# Altium footprint library PCB1.PcbLib: 38 footprints (part 2 of 3)
Each footprint in its own frame and in the unit in brackets; x right, y up, seen from the top. Pads: shape width x height; smd on the part's side, far side on the other; paste and mask are expansions set on the pad; w line width, h text height; cw(c..) or ccw(c..) is an arc to the next point about the centre after c.
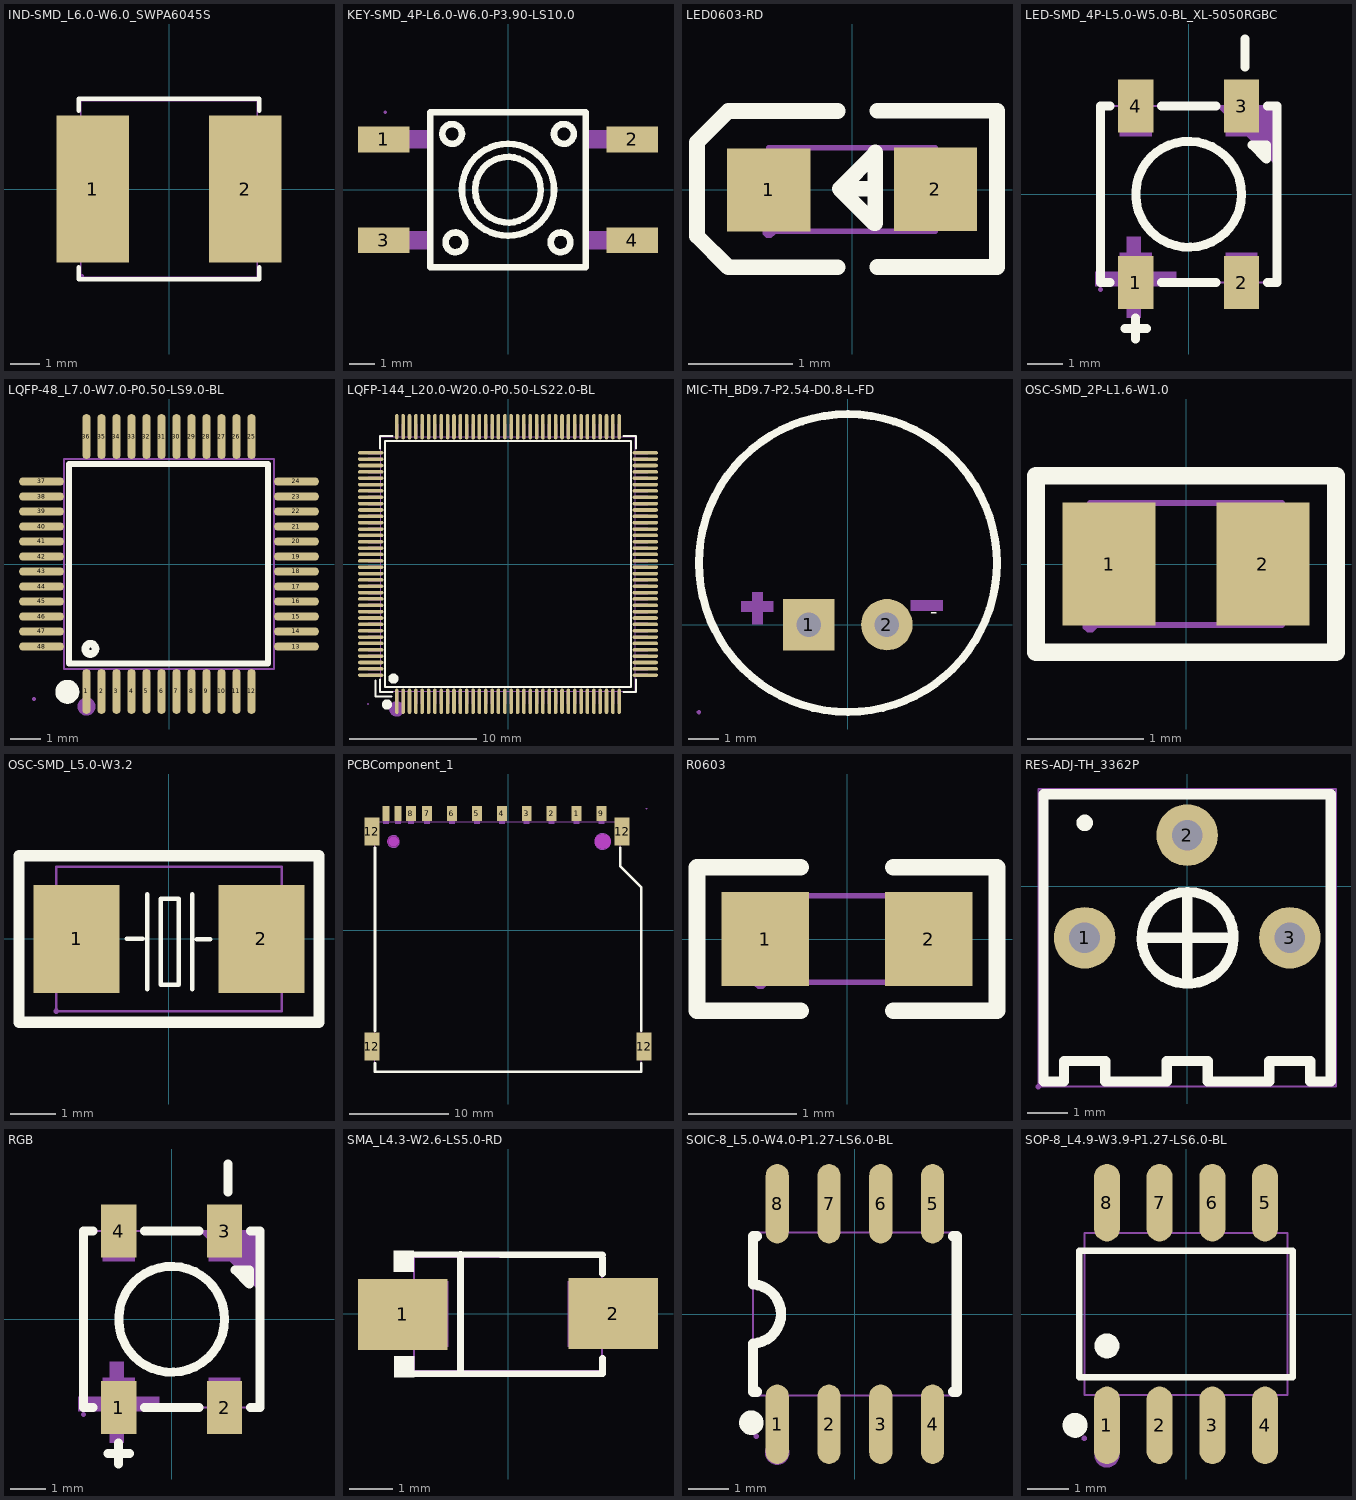
[diagram p1: the footprints below, top view; thin cyan lines are the x and y axes]

## IND-SMD_L6.0-W6.0_SWPA6045S [mm]
pads (2):
  rect 2.474x5.02 smd: 1(-2.603,0) 2(2.603,0)
Top Overlay:
  lines w0.152: -3.076,-2.662 -3.076,-3.076 3.076,-3.076 3.076,-2.662 ; -3.076,2.662 -3.076,3.076 3.076,3.076 3.076,2.662
Mechanical 15:
  region: -3,2.45 -1.45,2.45 -1.45,-2.45 -3,-2.45
  region: 1.45,2.45 3,2.45 3,-2.45 1.45,-2.45
  region: -2.91,-2.97 -2.91,-2.945 -2.945,-2.91 -2.995,-2.91 -3.03,-2.945 -3.03,-2.97 -3.03,-2.995 -2.995,-3.03 -2.945,-3.03 -2.91,-2.995 -2.91,-2.97
  lines w0.051: -3,-3 3,-3 3,3 -3,3 -3,-3

## KEY-SMD_4P-L6.0-W6.0-P3.90-LS10.0 [mm]
pads (4):
  rect 2x1 smd: 1(-4.8,1.95) 2(4.8,1.95) 3(-4.8,-1.95) 4(4.8,-1.95)
Top Overlay:
  circle w0.254: c-2.159,2.159 r0.381
  circle w0.254: c2.159,2.159 r0.381
  circle w0.254: c-2.032,-2.032 r0.381
  circle w0.254: c2.032,-2.032 r0.381
  circle w0.254: c0,0 r1.778
  circle w0.254: c0,0 r1.27
  lines w0.254: -3,-3 -3,3 3,3 3,-3 -3,-3
Mechanical 15:
  region: -4.75,3.06 -4.775,3.06 -4.81,3.025 -4.81,2.975 -4.775,2.94 -4.75,2.94 -4.725,2.94 -4.69,2.975 -4.69,3.025 -4.725,3.06 -4.75,3.06
  region: 3.85,-2.3 3.85,-1.6 4.55,-1.6 4.55,-2.3
  region: -4.55,-2.3 -4.55,-1.6 -3.85,-1.6 -3.85,-2.3
  region: 3.85,1.6 3.85,2.3 4.55,2.3 4.55,1.6
  region: -4.55,1.6 -4.55,2.3 -3.85,2.3 -3.85,1.6
  region: 4.15,1.6 4.15,2.29 4.14,2.3 2.95,2.3 2.95,1.6
  region: 4.15,-2.3 4.15,-1.61 4.14,-1.6 2.95,-1.6 2.95,-2.3
  region: -4.15,-1.6 -4.15,-2.29 -4.14,-2.3 -2.95,-2.3 -2.95,-1.6
  region: -4.15,2.3 -4.15,1.61 -4.14,1.6 -2.95,1.6 -2.95,2.3
  lines w0.051: -3,-3 -3,3 3,3 3,-3 -3,-3

## LED0603-RD [mm]
pads (2):
  rect 0.8x0.8 smd: 1(-0.799,-0.003) 2(0.799,0.003)
Top Overlay:
  lines w0.15: -0.14,-0.746 -1.19,-0.746 -1.49,-0.446 -1.49,-0.346 -1.49,0.354 -1.49,0.454 -1.19,0.754 -0.14,0.754 ; 0.22,0.007 -0.12,0.007 ; 0.24,-0.744 1.39,-0.744 ; 0.24,0.757 1.39,0.757 1.39,-0.723 ; -0.12,0.007 0.22,0.347 0.22,0.357 0.22,-0.324 0.21,-0.324 -0.12,0.007
Mechanical 6:
  region: 0.529,0.068 1.069,0.068 1.069,-0.062 0.529,-0.062
  region: 0.735,-0.267 0.735,0.273 0.865,0.273 0.865,-0.267
  region: -1.07,0.062 -0.53,0.062 -0.53,-0.068 -1.07,-0.068
Mechanical 15:
  region: 0.5,-0.396 0.5,0.404 0.8,0.404 0.8,-0.396
  region: -0.8,-0.403 -0.8,0.397 -0.5,0.397 -0.5,-0.403
  region: -0.739,-0.403 -0.739,-0.379 -0.775,-0.344 -0.824,-0.344 -0.859,-0.379 -0.859,-0.403 -0.859,-0.428 -0.824,-0.463 -0.775,-0.463 -0.739,-0.428 -0.739,-0.403
  lines w0.051: -0.8,-0.4 0.8,-0.4 0.8,0.4 -0.8,0.4 -0.8,-0.4

## LED-SMD_4P-L5.0-W5.0-BL_XL-5050RGBC [mm]
pads (4):
  rect 1x1.5 smd: 1(-1.5,-2.5) 2(1.5,-2.5) 3(1.5,2.5) 4(-1.5,2.5)
Top Overlay:
  circle w0.254: c0,-0.001 r1.5
  lines w0.254: -2.23,-2.501 -2.5,-2.501 -2.5,2.499 -2.23,2.499 ; -1.8,-3.8 -1.2,-3.8 ; -1.5,-4.1 -1.5,-3.5 ; -0.77,-2.501 0.77,-2.501 ; -0.77,2.499 0.77,2.499 ; 1.6,3.6 1.6,4.4 ; 2.23,-2.501 2.5,-2.501 2.5,2.499 2.23,2.499 ; 1.8,1.399 2.2,1.399 2.2,0.999 1.8,1.399
Mechanical 6:
  region: -2.65,-2.2 -2.65,-2.6 -0.35,-2.6 -0.35,-2.2
  region: -1.75,-3.5 -1.75,-1.2 -1.45,-1.2 -1.35,-1.2 -1.35,-1.3 -1.35,-3.5
  region: 0.9,2.5 0.8,2.5 0.9,2.4 2.5,0.8 2.5,2.5
Mechanical 15:
  region: -2.44,-2.7 -2.44,-2.675 -2.475,-2.64 -2.525,-2.64 -2.56,-2.675 -2.56,-2.7 -2.56,-2.725 -2.525,-2.76 -2.475,-2.76 -2.44,-2.725
  region: -1.05,2.7 -1.05,1.65 -1.95,1.65 -1.95,2.7
  region: -1.05,-1.65 -1.05,-2.7 -1.95,-2.7 -1.95,-1.65
  region: 1.95,-1.65 1.95,-2.7 1.05,-2.7 1.05,-1.65
  region: 1.95,2.7 1.95,1.65 1.05,1.65 1.05,2.7
  lines w0.051: -2.5,-2.5 -2.5,2.5 2.5,2.5 2.5,-2.5 -2.5,-2.5

## LQFP-48_L7.0-W7.0-P0.50-LS9.0-BL [mm]
pads (48):
  oval 0.27x1.5 smd paste+0 mask+0.05: 1(-2.75,-4.25) 2(-2.25,-4.25) 3(-1.75,-4.25) 4(-1.25,-4.25) 5(-0.75,-4.25) 6(-0.25,-4.25) 7(0.25,-4.25) 8(0.75,-4.25) 9(1.25,-4.25) 10(1.75,-4.25) 11(2.25,-4.25) 12(2.75,-4.25) 25(2.75,4.25) 26(2.25,4.25) 27(1.75,4.25) 28(1.25,4.25) 29(0.75,4.25) 30(0.25,4.25) 31(-0.25,4.25) 32(-0.75,4.25) 33(-1.25,4.25) 34(-1.75,4.25) 35(-2.25,4.25) 36(-2.75,4.25)
  oval 1.5x0.27 smd paste+0 mask+0.05: 13(4.25,-2.75) 14(4.25,-2.25) 15(4.25,-1.75) 16(4.25,-1.25) 17(4.25,-0.75) 18(4.25,-0.25) 19(4.25,0.25) 20(4.25,0.75) 21(4.25,1.25) 22(4.25,1.75) 23(4.25,2.25) 24(4.25,2.75) 37(-4.25,2.75) 38(-4.25,2.25) 39(-4.25,1.75) 40(-4.25,1.25) 41(-4.25,0.75) 42(-4.25,0.25) 43(-4.25,-0.25) 44(-4.25,-0.75) 45(-4.25,-1.25) 46(-4.25,-1.75) 47(-4.25,-2.25) 48(-4.25,-2.75)
Top Overlay:
  circle w0.254: c-2.62,-2.83 r0.17
  lines w0.2: -2.896,3.34 3.302,3.34 3.302,-3.315 -3.327,-3.315 -3.327,3.34 -2.565,3.34
  lines w0.4: -3.39,-4.06 ccw(c-3.389,-4.26) -3.387,-4.06
Mechanical 6:
  circle w0.3: c-2.75,-4.75 r0.15
Mechanical 15:
  drawing of 101 lines, arcs and shapes, not listed

## LQFP-144_L20.0-W20.0-P0.50-LS22.0-BL [mm]
pads (144):
  oval 0.28x2 smd: 1(-8.75,-10.8) 2(-8.25,-10.8) 3(-7.75,-10.8) 4(-7.25,-10.8) 5(-6.75,-10.8) 6(-6.25,-10.8) 7(-5.75,-10.8) 8(-5.25,-10.8) 9(-4.75,-10.8) 10(-4.25,-10.8) 11(-3.75,-10.8) 12(-3.25,-10.8) 13(-2.75,-10.8) 14(-2.25,-10.8) 15(-1.75,-10.8) 16(-1.25,-10.8) 17(-0.75,-10.8) 18(-0.25,-10.8) 19(0.25,-10.8) 20(0.75,-10.8) 21(1.25,-10.8) 22(1.75,-10.8) 23(2.25,-10.8) 24(2.75,-10.8) 25(3.25,-10.8) 26(3.75,-10.8) 27(4.25,-10.8) 28(4.75,-10.8) 29(5.25,-10.8) 30(5.75,-10.8) 31(6.25,-10.8) 32(6.75,-10.8) 33(7.25,-10.8) 34(7.75,-10.8) 35(8.25,-10.8) 36(8.75,-10.8) 73(8.75,10.8) 74(8.25,10.8) 75(7.75,10.8) 76(7.25,10.8) 77(6.75,10.8) 78(6.25,10.8) 79(5.75,10.8) 80(5.25,10.8) 81(4.75,10.8) 82(4.25,10.8) 83(3.75,10.8) 84(3.25,10.8) 85(2.75,10.8) 86(2.25,10.8) 87(1.75,10.8) 88(1.25,10.8) 89(0.75,10.8) 90(0.25,10.8) 91(-0.25,10.8) 92(-0.75,10.8) 93(-1.25,10.8) 94(-1.75,10.8) 95(-2.25,10.8) 96(-2.75,10.8) 97(-3.25,10.8) 98(-3.75,10.8) 99(-4.25,10.8) 100(-4.75,10.8) 101(-5.25,10.8) 102(-5.75,10.8) 103(-6.25,10.8) 104(-6.75,10.8) 105(-7.25,10.8) 106(-7.75,10.8) 107(-8.25,10.8) 108(-8.75,10.8)
  oval 2x0.28 smd: 37(10.8,-8.75) 38(10.8,-8.25) 39(10.8,-7.75) 40(10.8,-7.25) 41(10.8,-6.75) 42(10.8,-6.25) 43(10.8,-5.75) 44(10.8,-5.25) 45(10.8,-4.75) 46(10.8,-4.25) 47(10.8,-3.75) 48(10.8,-3.25) 49(10.8,-2.75) 50(10.8,-2.25) 51(10.8,-1.75) 52(10.8,-1.25) 53(10.8,-0.75) 54(10.8,-0.25) 55(10.8,0.25) 56(10.8,0.75) 57(10.8,1.25) 58(10.8,1.75) 59(10.8,2.25) 60(10.8,2.75) 61(10.8,3.25) 62(10.8,3.75) 63(10.8,4.25) 64(10.8,4.75) 65(10.8,5.25) 66(10.8,5.75) 67(10.8,6.25) 68(10.8,6.75) 69(10.8,7.25) 70(10.8,7.75) 71(10.8,8.25) 72(10.8,8.75) 109(-10.8,8.75) 110(-10.8,8.25) 111(-10.8,7.75) 112(-10.8,7.25) 113(-10.8,6.75) 114(-10.8,6.25) 115(-10.8,5.75) 116(-10.8,5.25) 117(-10.8,4.75) 118(-10.8,4.25) 119(-10.8,3.75) 120(-10.8,3.25) 121(-10.8,2.75) 122(-10.8,2.25) 123(-10.8,1.75) 124(-10.8,1.25) 125(-10.8,0.75) 126(-10.8,0.25) 127(-10.8,-0.25) 128(-10.8,-0.75) 129(-10.8,-1.25) 130(-10.8,-1.75) 131(-10.8,-2.25) 132(-10.8,-2.75) 133(-10.8,-3.25) 134(-10.8,-3.75) 135(-10.8,-4.25) 136(-10.8,-4.75) 137(-10.8,-5.25) 138(-10.8,-5.75) 139(-10.8,-6.25) 140(-10.8,-6.75) 141(-10.8,-7.25) 142(-10.8,-7.75) 143(-10.8,-8.25) 144(-10.8,-8.75)
Top Overlay:
  circle w0.4: c-9.017,-9.017 r0.2
  circle w0.4: c-9.525,-11.049 r0.2
  lines w0.152: -10.414,-9.144 -10.414,-10.414 -9.144,-10.414 ; -10.076,-9.081 -10.076,-10.076 -9.08,-10.076 ; -10.076,9.08 -10.076,10.076 -9.08,10.076 ; 9.081,-10.076 10.076,-10.076 10.076,-9.081 ; 9.081,10.076 10.076,10.076 10.076,9.08 ; -9.671,-9.671 9.671,-9.671 9.671,9.671 -9.671,9.671 -9.671,-9.671
Mechanical 6:
  circle w0.6: c-8.75,-11.4 r0.3
Mechanical 15:
  drawing of 293 lines, arcs and shapes, not listed

## MIC-TH_BD9.7-P2.54-D0.8-L-FD [mil]
pads (2):
  rect 66x66 hole 31.5: 1(-50,0)
  round 66 hole 31.5: 2(50,0)
Top Overlay:
  circle w10: c0,79 r191
  text "-" at 115,22.18 h19.61
Mechanical 6:
  region: 80.51,18.11 80.51,31.5 121.85,31.5 121.85,18.11
  region: -137.06,16.58 -137.06,29.97 -95.72,29.97 -95.72,16.58
  region: -109.08,0.4 -122.46,0.4 -122.46,41.73 -109.08,41.73
Mechanical 15:
  region: -191.14,-109.83 -192.12,-109.83 -193.5,-111.22 -193.5,-113.18 -192.12,-114.56 -191.14,-114.56 -190.16,-114.56 -188.78,-113.18 -188.78,-111.22 -190.16,-109.83 -191.14,-109.83
  region: 50,9.84 48.04,9.84 44.43,8.34 41.66,5.57 40.16,1.96 40.16,-1.96 41.66,-5.57 44.43,-8.34 48.04,-9.84 50,-9.84 51.96,-9.84 55.57,-8.34 58.34,-5.57 59.84,-1.96 59.84,1.96 58.34,5.57 55.57,8.34 51.96,9.84 50,9.84
  region: -50,9.84 -51.96,9.84 -55.57,8.34 -58.34,5.57 -59.84,1.96 -59.84,-1.96 -58.34,-5.57 -55.57,-8.34 -51.96,-9.84 -50,-9.84 -48.04,-9.84 -44.43,-8.34 -41.66,-5.57 -40.16,-1.96 -40.16,1.96 -41.66,5.57 -44.43,8.34 -48.04,9.84 -50,9.84
  lines w2: -191.14,78.95 cw(c0,78.94) 191.14,78.94 cw(c0,78.94) -191.14,78.95

## OSC-SMD_2P-L1.6-W1.0 [mm]
pads (2):
  rect 0.8x1.06 smd: 1(-0.66,0) 2(0.66,0)
Top Overlay:
  lines w0.152: -1.289,-0.759 1.289,-0.759 1.289,0.759 -1.289,0.759 -1.289,-0.759
Mechanical 15:
  region: 0.36,-0.43 0.36,0.43 0.76,0.43 0.76,-0.43
  region: -0.36,-0.43 -0.36,0.43 -0.76,0.43 -0.76,-0.43
  region: -0.765,-0.525 -0.765,-0.5 -0.8,-0.465 -0.85,-0.465 -0.885,-0.5 -0.885,-0.525 -0.885,-0.55 -0.85,-0.585 -0.8,-0.585 -0.765,-0.55 -0.765,-0.525
  lines w0.051: -0.825,-0.525 0.825,-0.525 0.825,0.525 -0.825,0.525 -0.825,-0.525

## OSC-SMD_L5.0-W3.2 [mm]
pads (2):
  rect 1.9x2.4 smd: 1(-2.05,0) 2(2.05,0)
Top Overlay:
  lines w0.1: -0.94,0 -0.584,0 ; -0.483,-1.109 -0.483,0.991 ; 0.517,-1.109 0.517,0.991 ; 0.617,-0.009 0.917,-0.009 ; -0.183,-1.009 0.217,-1.009 0.217,0.89 -0.183,0.89 -0.183,-1.009
  lines w0.254: -3.325,-1.85 -3.325,-0.7 -3.325,0.7 -3.325,1.85 3.325,1.85 3.325,0.7 3.325,-0.7 3.325,-1.85 -3.325,-1.85
Mechanical 15:
  region: -1.2,1 -1.2,-1 -2.5,-1 -2.5,1
  region: 2.5,1 2.5,-1 1.2,-1 1.2,1
  region: -2.56,-1.6 -2.56,-1.625 -2.525,-1.66 -2.475,-1.66 -2.44,-1.625 -2.44,-1.6 -2.44,-1.575 -2.475,-1.54 -2.525,-1.54 -2.56,-1.575 -2.56,-1.6
  lines w0.051: -2.5,-1.6 2.5,-1.6 2.5,1.6 -2.5,1.6 -2.5,-1.6

## PCBComponent_1 [mm]
pads (15):
  rect 1x1.5 smd: 1(6.88,11.69) 2(4.38,11.69) 3(1.88,11.69) 4(-0.62,11.69) 5(-3.12,11.69) 6(-5.62,11.69) 7(-8.12,11.69) 8(-9.75,11.69) 9(9.38,11.69)
  rect 0.7x1.5 smd: 10(-11.05,11.69) 11(-12.25,11.69)
  rect 1.5x2.8 smd: 12(-13.65,-11.69) 12(-13.65,9.89) 12(11.455,9.89) 12(13.65,-11.69)
Top Overlay:
  lines w0.254: -13.345,-13.341 -13.345,-14.223 13.35,-14.223 13.35,-13.341 ; -13.345,-10.079 -13.345,-8.579 -13.345,8.259 ; 11.25,8.259 11.25,6.418 13.35,4.318 13.35,3.92 13.35,-8.579 ; 13.35,-10.079 13.35,-8.416
Keep-Out Layer:
  board cut-out: 10.3,8.89 10.3,8.995 10.246,9.199 10.14,9.381 9.991,9.53 9.809,9.635 9.605,9.69 9.395,9.69 9.191,9.635 9.009,9.53 8.86,9.381 8.755,9.199 8.7,8.995 8.7,8.89 8.7,8.785 8.755,8.581 8.86,8.399 9.009,8.25 9.191,8.144 9.395,8.09 9.605,8.09 9.809,8.144 9.991,8.25 10.14,8.399 10.246,8.581 10.3,8.785 10.3,8.89
  board cut-out: -10.9,8.89 -10.902,9.008 -10.995,9.226 -11.163,9.392 -11.382,9.482 -11.618,9.482 -11.837,9.392 -12.006,9.226 -12.098,9.008 -12.1,8.89 -12.098,8.772 -12.006,8.554 -11.837,8.388 -11.618,8.298 -11.382,8.298 -11.163,8.388 -10.995,8.554 -10.902,8.772 -10.9,8.89
Mechanical 1:
  circle w0.005: c9.5,8.89 r0.8
  circle w0.005: c-11.5,8.89 r0.6
Mechanical 6:
  circle w0.75: c9.5,8.89 r0.375
  circle w0.5: c-11.5,8.89 r0.25
Mechanical 15:
  region: 13.96,12.19 13.959,12.214 13.924,12.248 13.876,12.248 13.841,12.214 13.84,12.19 13.841,12.166 13.876,12.132 13.924,12.132 13.959,12.166 13.96,12.19
  region: 11.2,10.89 11.8,10.89 11.8,8.89 11.2,8.89
  region: -13.9,10.89 -13.3,10.89 -13.3,8.89 -13.9,8.89
  region: -13.9,-10.69 -13.3,-10.69 -13.3,-12.69 -13.9,-12.69
  region: 13.3,-10.69 13.9,-10.69 13.9,-12.69 13.3,-12.69
  region: 9.105,12.19 9.655,12.19 9.655,11.418 9.105,11.418
  region: 9.105,11.468 9.655,11.468 9.655,10.69 9.105,10.69
  region: 6.605,11.468 7.155,11.468 7.155,10.69 6.605,10.69
  region: 6.605,12.19 7.155,12.19 7.155,11.418 6.605,11.418
  region: 4.105,11.468 4.655,11.468 4.655,10.69 4.105,10.69
  region: 4.105,12.19 4.655,12.19 4.655,11.418 4.105,11.418
  region: 1.605,11.468 2.155,11.468 2.155,10.69 1.605,10.69
  region: 1.605,12.19 2.155,12.19 2.155,11.418 1.605,11.418
  region: -0.895,11.468 -0.345,11.468 -0.345,10.69 -0.895,10.69
  region: -0.895,12.19 -0.345,12.19 -0.345,11.418 -0.895,11.418
  region: -3.395,11.468 -2.845,11.468 -2.845,10.69 -3.395,10.69
  region: -3.395,12.19 -2.845,12.19 -2.845,11.418 -3.395,11.418
  region: -5.895,11.468 -5.345,11.468 -5.345,10.69 -5.895,10.69
  region: -5.895,12.19 -5.345,12.19 -5.345,11.418 -5.895,11.418
  region: -8.395,11.468 -7.845,11.468 -7.845,10.69 -8.395,10.69
  region: -8.395,12.19 -7.845,12.19 -7.845,11.418 -8.395,11.418
  region: -10.025,11.468 -9.475,11.468 -9.475,10.69 -10.025,10.69
  region: -10.025,12.19 -9.475,12.19 -9.475,11.418 -10.025,11.418
  region: -11.325,11.468 -10.775,11.468 -10.775,10.69 -11.325,10.69
  region: -11.325,12.19 -10.775,12.19 -10.775,11.418 -11.325,11.418
  region: -12.525,11.468 -11.975,11.468 -11.975,10.69 -12.525,10.69
  region: -12.525,12.19 -11.975,12.19 -11.975,11.418 -12.525,11.418
  lines w0.051: -13.345,-14.21 -13.345,10.89 11.25,10.89 11.25,6.418 13.35,4.24 13.35,-14.21 -13.345,-14.21
Multi-Layer:
  pour cut-out: 10.3,8.89 10.3,8.995 10.246,9.199 10.14,9.381 9.991,9.53 9.809,9.635 9.605,9.69 9.395,9.69 9.191,9.635 9.009,9.53 8.86,9.381 8.755,9.199 8.7,8.995 8.7,8.89 8.7,8.785 8.755,8.581 8.86,8.399 9.009,8.25 9.191,8.144 9.395,8.09 9.605,8.09 9.809,8.144 9.991,8.25 10.14,8.399 10.246,8.581 10.3,8.785 10.3,8.89
  pour cut-out: -10.9,8.89 -10.902,9.008 -10.995,9.226 -11.163,9.392 -11.382,9.482 -11.618,9.482 -11.837,9.392 -12.006,9.226 -12.098,9.008 -12.1,8.89 -12.098,8.772 -12.006,8.554 -11.837,8.388 -11.618,8.298 -11.382,8.298 -11.163,8.388 -10.995,8.554 -10.902,8.772 -10.9,8.89

## R0603 [mm]
pads (2):
  rect 0.806x0.864 smd paste-100 mask+0.051: 1(-0.753,0) 2(0.753,0)
Top Overlay:
  lines w0.152: -0.426,-0.661 -1.385,-0.661 -1.385,0.661 -0.426,0.661 ; 0.426,-0.661 1.385,-0.661 1.385,0.661 0.426,0.661
Top Paste:
  region: 1.195,0.45 0.395,0.45 0.345,0.4 0.345,0.172 0.715,0.172 0.715,-0.158 0.345,-0.158 0.345,-0.4 0.395,-0.45 1.195,-0.45 1.245,-0.4 1.245,0.4
  region: -0.355,0.4 -0.355,0.172 -0.735,0.172 -0.735,-0.158 -0.355,-0.158 -0.355,-0.4 -0.405,-0.45 -1.195,-0.45 -1.245,-0.4 -1.245,0.4 -1.195,0.45 -0.405,0.45
Mechanical 15:
  region: -0.86,-0.4 -0.86,-0.425 -0.825,-0.46 -0.775,-0.46 -0.74,-0.425 -0.74,-0.4 -0.74,-0.375 -0.775,-0.34 -0.825,-0.34 -0.86,-0.375 -0.86,-0.4
  region: -0.8,-0.4 -0.8,0.4 -0.5,0.4 -0.5,-0.4
  region: 0.8,-0.4 0.8,0.4 0.5,0.4 0.5,-0.4
  lines w0.051: -0.8,-0.4 -0.8,0.4 0.8,0.4 0.8,-0.4 -0.8,-0.4

## RES-ADJ-TH_3362P [mil]
pads (3):
  round 60 hole 30: 1(-100,-50) 2(0,50) 3(100,-50)
Top Overlay:
  lines w10: -100,65 ccw(c-99.95,62) -99.9,65 ; -40,-50 40,-50 ; 0,-90 0,-10 ; 0,-5.3 ccw(c0.4,-50.02) 0.8,-5.3 ; 140,-30 140,90 -140,90 -140,-30 -140,-170 -140,-190 -120,-190 -120,-170 -80,-170 -80,-190 -20,-190 -20,-170 20,-170 20,-190 80,-190 80,-170 120,-170 120,-190 140,-190 140,-170 140,-10
Mechanical 15:
  region: 111.06,-50 111.06,-47.8 109.38,-43.73 106.27,-40.62 102.2,-38.94 97.8,-38.94 93.73,-40.62 90.62,-43.73 88.94,-47.8 88.94,-50 88.94,-52.2 90.62,-56.27 93.73,-59.38 97.8,-61.06 102.2,-61.06 106.27,-59.38 109.38,-56.27 111.06,-52.2 111.06,-50
  region: 11.06,50 11.06,52.2 9.38,56.27 6.27,59.38 2.2,61.06 -2.2,61.06 -6.27,59.38 -9.38,56.27 -11.06,52.2 -11.06,50 -11.06,47.8 -9.38,43.73 -6.27,40.62 -2.2,38.94 2.2,38.94 6.27,40.62 9.38,43.73 11.06,47.8 11.06,50
  region: -88.94,-50 -88.94,-47.8 -90.62,-43.73 -93.73,-40.62 -97.8,-38.94 -102.2,-38.94 -106.27,-40.62 -109.38,-43.73 -111.06,-47.8 -111.06,-50 -111.06,-52.2 -109.38,-56.27 -106.27,-59.38 -102.2,-61.06 -97.8,-61.06 -93.73,-59.38 -90.62,-56.27 -88.94,-52.2 -88.94,-50
  region: -142.64,-195 -142.64,-194.02 -144.02,-192.64 -145.98,-192.64 -147.36,-194.02 -147.36,-195 -147.36,-195.98 -145.98,-197.36 -144.02,-197.36 -142.64,-195.98 -142.64,-195
  lines w2: -145,-195 145,-195 145,95 -145,95 -145,-195

## RGB [mm]
pads (4):
  rect 1x1.5 smd: 1(-1.5,-2.5) 2(1.5,-2.5) 3(1.5,2.5) 4(-1.5,2.5)
Top Overlay:
  circle w0.254: c0,-0.001 r1.5
  lines w0.254: -2.23,-2.501 -2.5,-2.501 -2.5,2.499 -2.23,2.499 ; -1.8,-3.8 -1.2,-3.8 ; -1.5,-4.1 -1.5,-3.5 ; -0.77,-2.501 0.77,-2.501 ; -0.77,2.499 0.77,2.499 ; 1.6,3.6 1.6,4.4 ; 2.23,-2.501 2.5,-2.501 2.5,2.499 2.23,2.499 ; 1.8,1.399 2.2,1.399 2.2,0.999 1.8,1.399
Mechanical 6:
  region: -2.65,-2.2 -2.65,-2.6 -0.35,-2.6 -0.35,-2.2
  region: -1.75,-3.5 -1.75,-1.2 -1.45,-1.2 -1.35,-1.2 -1.35,-1.3 -1.35,-3.5
  region: 0.9,2.5 0.8,2.5 0.9,2.4 2.5,0.8 2.5,2.5
Mechanical 15:
  region: -2.44,-2.7 -2.44,-2.675 -2.475,-2.64 -2.525,-2.64 -2.56,-2.675 -2.56,-2.7 -2.56,-2.725 -2.525,-2.76 -2.475,-2.76 -2.44,-2.725
  region: -1.05,2.7 -1.05,1.65 -1.95,1.65 -1.95,2.7
  region: -1.05,-1.65 -1.05,-2.7 -1.95,-2.7 -1.95,-1.65
  region: 1.95,-1.65 1.95,-2.7 1.05,-2.7 1.05,-1.65
  region: 1.95,2.7 1.95,1.65 1.05,1.65 1.05,2.7
  lines w0.051: -2.5,-2.5 -2.5,2.5 2.5,2.5 2.5,-2.5 -2.5,-2.5

## SMA_L4.3-W2.6-LS5.0-RD [mm]
pads (2):
  rect 2.046x1.62 smd: 1(-2.404,-0.009) 2(2.404,0.009)
Top Overlay:
  region: -2.158,1.44 -2.158,0.962 -2.615,0.962 -2.615,1.44
  region: -2.145,-1.44 -2.145,-0.962 -2.602,-0.962 -2.602,-1.44
  lines w0.152: -2.526,1.364 2.159,1.346 ; -2.504,-1.364 2.165,-1.364 ; -1.085,-1.364 -1.085,1.364 ; 2.159,-1.364 2.159,-1.013 ; 2.159,0.919 2.159,1.27
Mechanical 6:
  region: -2.432,-0.097 -2.432,0.097 -1.659,0.097 -1.659,-0.097
  region: 2.432,-0.097 2.432,0.097 1.659,0.097 1.659,-0.097
  region: 2.142,-0.644 2.142,0.644 1.949,0.644 1.949,-0.644
Mechanical 15:
  region: -2.44,-1.3 -2.44,-1.275 -2.475,-1.24 -2.525,-1.24 -2.56,-1.275 -2.56,-1.3 -2.56,-1.325 -2.525,-1.36 -2.475,-1.36 -2.44,-1.325 -2.44,-1.3
  region: 2.5,-0.75 2.5,0.75 1.36,0.75 1.36,-0.75
  region: -2.5,0.75 -2.5,-0.75 -1.36,-0.75 -1.36,0.75
  lines w0.051: -2.15,-1.3 -2.15,1.3 2.15,1.3 2.15,-1.3 -2.15,-1.3

## SOIC-8_L5.0-W4.0-P1.27-LS6.0-BL [mil]
pads (8):
  oval 22.38x76.78 smd: 1(-75,-106.5) 2(-25,-106.5) 3(25,-106.5) 4(75,-106.5) 5(75,106.5) 6(25,106.5) 7(-25,106.5) 8(-75,106.5)
Top Overlay:
  circle w11.81: c-100,-105 r5.91
  lines w10: -98.43,-28.61 ccw(c-99.99,0) -98.23,28.59 ; -98.42,-28.61 -98.42,-59.05 -98.42,-75 -94.83,-75 ; -98.42,28.59 -98.42,59.05 -98.42,75 -94.83,75 ; 94.83,-75 98.42,-75 98.42,-59.05 98.42,59.05 98.42,75 94.83,75
Mechanical 6:
  circle w11.81: c-75,-133.86 r5.91
Mechanical 15:
  region: -92.92,-118.11 -92.92,-117.13 -94.3,-115.75 -96.26,-115.75 -97.64,-117.13 -97.64,-118.11 -97.64,-119.09 -96.26,-120.47 -94.3,-120.47 -92.92,-119.09 -92.92,-118.11
  region: 66.93,76.38 66.93,85.63 83.07,85.63 83.07,76.38
  region: 66.93,85.24 66.93,118.11 83.07,118.11 83.07,85.24
  region: 16.93,76.38 16.93,85.63 33.07,85.63 33.07,76.38
  region: 16.93,85.24 16.93,118.11 33.07,118.11 33.07,85.24
  region: -33.07,76.38 -33.07,85.63 -16.93,85.63 -16.93,76.38
  region: -33.07,85.24 -33.07,118.11 -16.93,118.11 -16.93,85.24
  region: -83.07,76.38 -83.07,85.63 -66.93,85.63 -66.93,76.38
  region: -83.07,85.24 -83.07,118.11 -66.93,118.11 -66.93,85.24
  region: 66.93,-85.63 66.93,-76.38 83.07,-76.38 83.07,-85.63
  region: 66.93,-118.11 66.93,-85.24 83.07,-85.24 83.07,-118.11
  region: 16.93,-85.63 16.93,-76.38 33.07,-76.38 33.07,-85.63
  region: 16.93,-118.11 16.93,-85.24 33.07,-85.24 33.07,-118.11
  region: -33.07,-85.63 -33.07,-76.38 -16.93,-76.38 -16.93,-85.63
  region: -33.07,-118.11 -33.07,-85.24 -16.93,-85.24 -16.93,-118.11
  region: -83.07,-85.63 -83.07,-76.38 -66.93,-76.38 -66.93,-85.63
  region: -83.07,-118.11 -83.07,-85.24 -66.93,-85.24 -66.93,-118.11
  lines w2: -98.42,-78.74 -98.42,78.74 98.42,78.74 98.42,-78.74 -98.42,-78.74

## SOP-8_L4.9-W3.9-P1.27-LS6.0-BL [mm]
pads (8):
  oval 0.63x1.865 smd: 1(-1.905,-2.682) 2(-0.635,-2.682) 3(0.635,-2.682) 4(1.905,-2.682) 5(1.905,2.682) 6(0.635,2.682) 7(-0.635,2.682) 8(-1.905,2.682)
Top Overlay:
  circle w0.3: c-1.905,-0.769 r0.15
  circle w0.3: c-2.672,-2.682 r0.15
  lines w0.152: -2.576,-1.521 -2.576,1.521 2.576,1.521 2.576,-1.521 -2.576,-1.521
Mechanical 6:
  circle w0.3: c-1.905,-3.4 r0.15
Mechanical 15:
  region: -2.45,-2.94 -2.475,-2.94 -2.51,-2.975 -2.51,-3.025 -2.475,-3.06 -2.45,-3.06 -2.425,-3.06 -2.39,-3.025 -2.39,-2.975 -2.425,-2.94 -2.45,-2.94
  region: 1.695,1.94 1.695,2.175 2.115,2.175 2.115,1.94
  region: 1.695,2.165 1.695,3 2.115,3 2.115,2.165
  region: 0.425,1.94 0.425,2.175 0.845,2.175 0.845,1.94
  region: 0.425,2.165 0.425,3 0.845,3 0.845,2.165
  region: -0.845,1.94 -0.845,2.175 -0.425,2.175 -0.425,1.94
  region: -0.845,2.165 -0.845,3 -0.425,3 -0.425,2.165
  region: -2.115,1.94 -2.115,2.175 -1.695,2.175 -1.695,1.94
  region: -2.115,2.165 -2.115,3 -1.695,3 -1.695,2.165
  region: 1.695,-2.175 1.695,-1.94 2.115,-1.94 2.115,-2.175
  region: 1.695,-3 1.695,-2.165 2.115,-2.165 2.115,-3
  region: 0.425,-2.175 0.425,-1.94 0.845,-1.94 0.845,-2.175
  region: 0.425,-3 0.425,-2.165 0.845,-2.165 0.845,-3
  region: -0.845,-2.175 -0.845,-1.94 -0.425,-1.94 -0.425,-2.175
  region: -0.845,-3 -0.845,-2.165 -0.425,-2.165 -0.425,-3
  region: -2.115,-2.175 -2.115,-1.94 -1.695,-1.94 -1.695,-2.175
  region: -2.115,-3 -2.115,-2.165 -1.695,-2.165 -1.695,-3
  lines w0.051: -2.45,-1.95 -2.45,1.95 2.45,1.95 2.45,-1.95 -2.45,-1.95